# Altium footprint library 215297-4.PcbLib: 1 footprints
Each footprint in its own frame and in the unit in brackets; x right, y up, seen from the top. Pads: shape width x height; smd on the part's side, far side on the other; paste and mask are expansions set on the pad; w line width, h text height; cw(c..) or ccw(c..) is an arc to the next point about the centre after c.
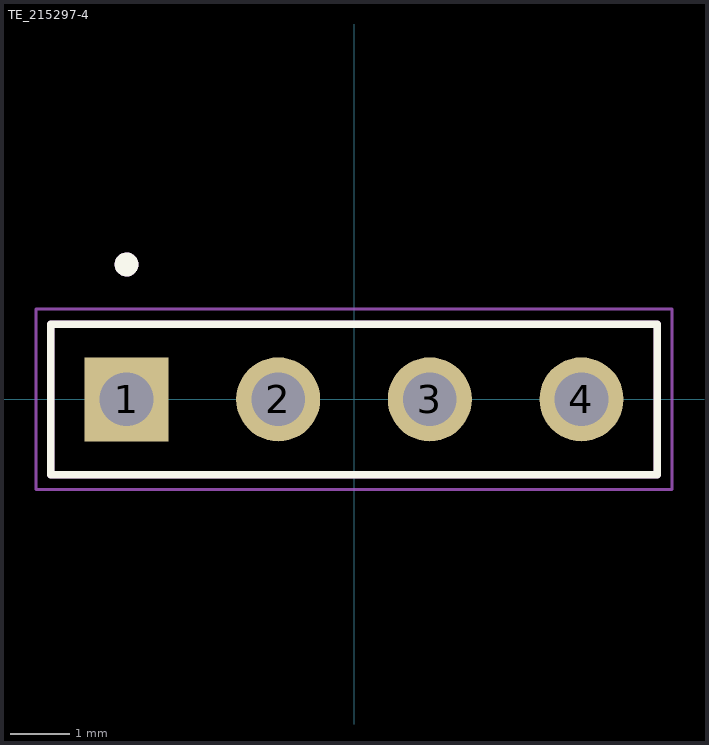
[diagram p0: the footprint, top view; thin cyan lines are the x and y axes]

## TE_215297-4 [mm]
pads (4):
  rect 1.408x1.408 hole 0.9: 1(-3.81,0)
  round 1.408 hole 0.9: 2(-1.27,0) 3(1.27,0) 4(3.81,0)
Top Overlay:
  circle w0.2: c-3.81,2.26 r0.1
  lines w0.127: -5.08,-1.26 -5.08,1.26 5.08,1.26 5.08,-1.26 -5.08,-1.26
Mechanical 13:
  circle w0.2: c-3.81,2.26 r0.1
  lines w0.127: -5.08,-1.26 -5.08,1.26 5.08,1.26 5.08,-1.26 -5.08,-1.26
Mechanical 15:
  lines w0.05: -5.33,-1.51 -5.33,1.51 5.33,1.51 5.33,-1.51 -5.33,-1.51
3D body "step_temp.STEP": height 1.26, standoff -1.26, extent -5.08,0 5.08,10